# Altium schematic symbol library GY-30.SchLib: 3 symbols
Pins are listed as number, name and electrical type; pins without a type are passive.

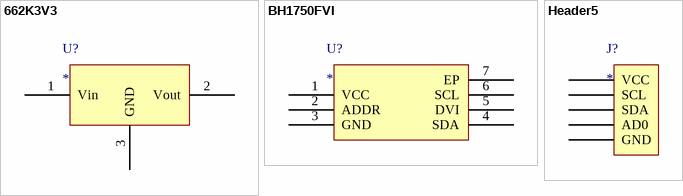
[diagram p0: symbols 662K3V3 to Header5]

## 662K3V3
designator U?
pins: 1 Vin, 2 Vout, 3 GND

## BH1750FVI
designator U?
pins: 1 VCC, 2 ADDR, 3 GND, 4 SDA, 5 DVI, 6 SCL, 7 EP

## Header5
designator J?
pins: 1 VCC, 2 SCL, 3 SDA, 4 AD0, 5 GND